# Altium footprint library Components.PcbLib: 154 footprints (part 8 of 10)
Each footprint in its own frame and in the unit in brackets; x right, y up, seen from the top. Pads: shape width x height; smd on the part's side, far side on the other; paste and mask are expansions set on the pad; w line width, h text height; cw(c..) or ccw(c..) is an arc to the next point about the centre after c.
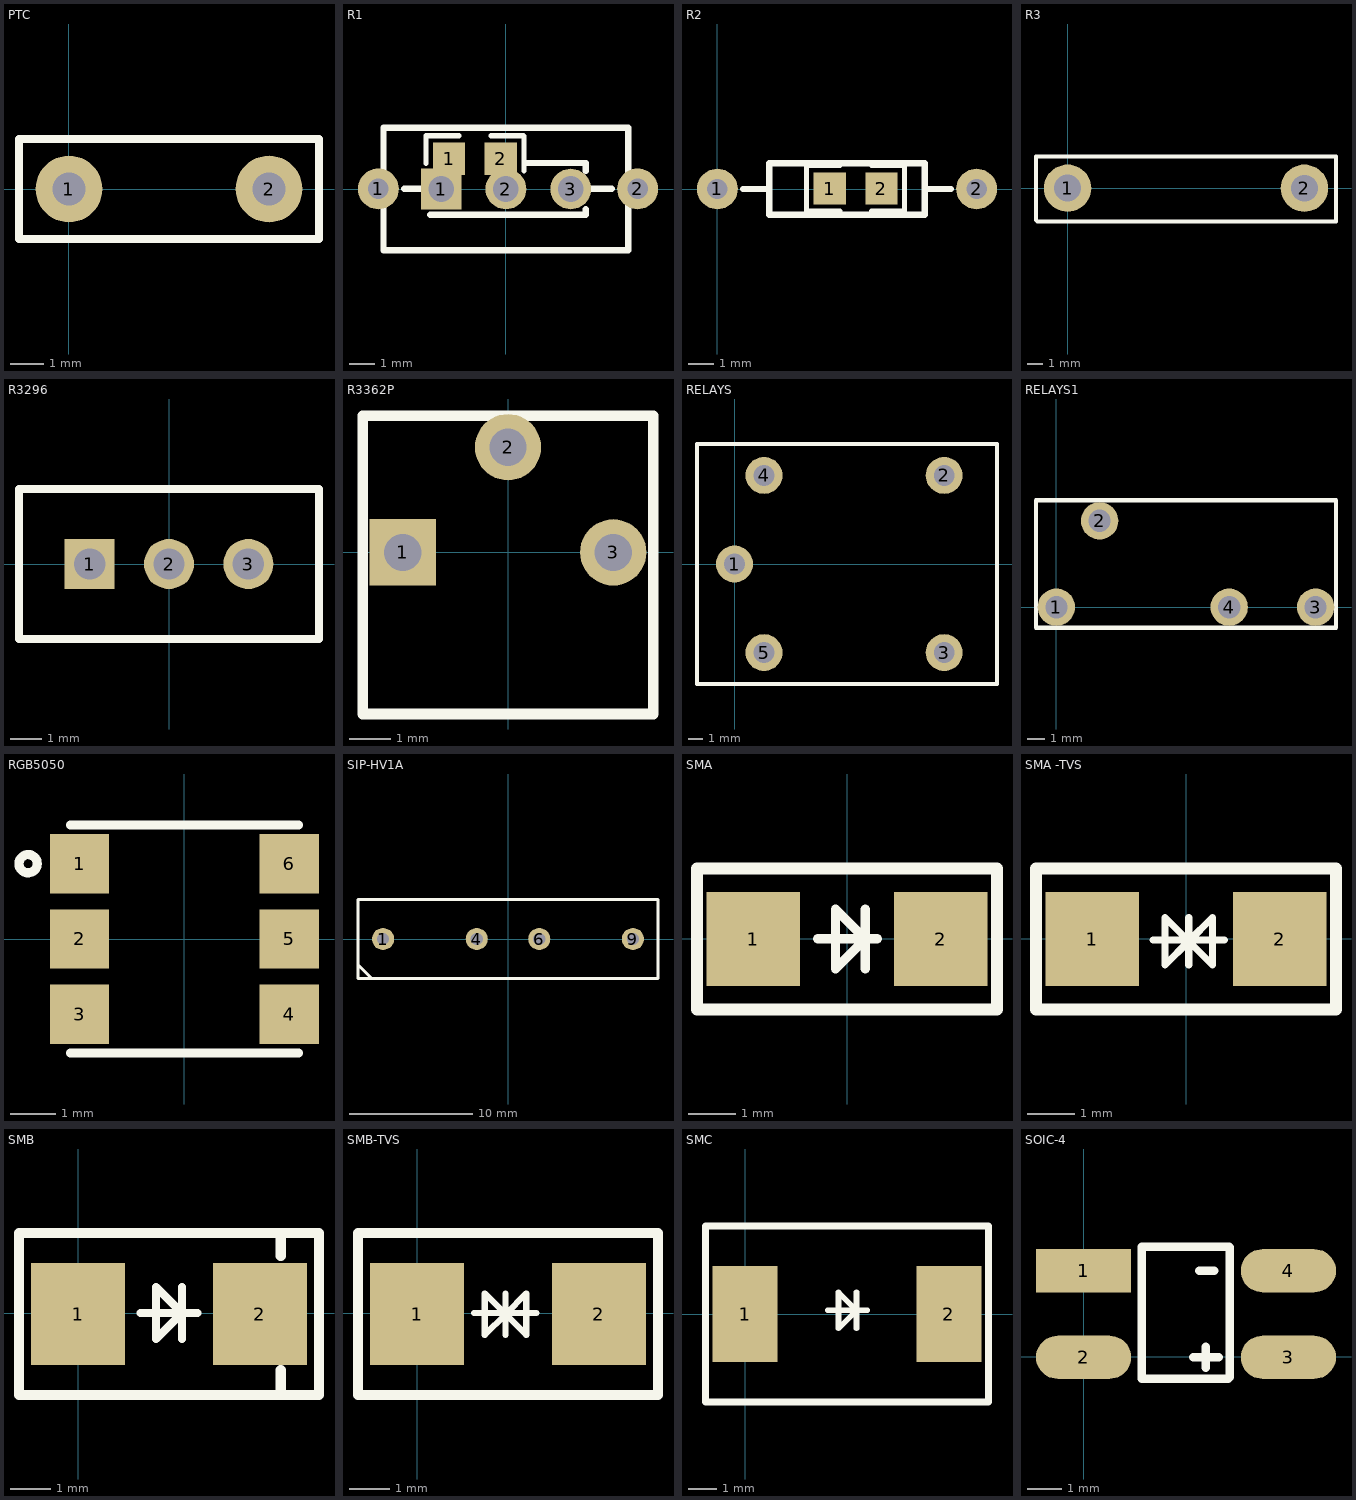
[diagram p7: the footprints below, top view; thin cyan lines are the x and y axes]

## PTC [mm] "Resettable fuse"
pads (2):
  round 2 hole 1: 1(0,0) 2(6,0)
Top Overlay:
  lines w0.254: -1.5,-1.5 -1.5,1.5 7.5,1.5 7.5,-1.5 -1.5,-1.5

## R1 [mm] "R"
pads (7):
  round 1.6 hole 0.8: 1(-5,0.003) 2(5.16,0.003)
  rect 1.6x1.6 hole 1: 1(-2.54,0)
  rect 1.27x1.27 smd: 1(-2.232,1.192) 2(-0.2,1.192)
  round 1.6 hole 1: 2(0,0) 3(2.54,0)
Top Overlay:
  lines w0.2: -3.132,1 -3.132,2.07 ; -3.124,2.089 -1.835,2.089 ; -0.585,2.089 0.695,2.089 ; 0.7,0.7 0.7,2.075
  lines w0.254: -3.984,0.003 -2.968,0.003 ; -2.732,-1.013 -2.968,-1.013 3.128,-1.013 3.128,-0.8 ; 0.8,1.019 3.128,1.019 3.128,0.706 ; 3.128,0.003 4.144,0.003 ; -4.8,-2.4 4.8,-2.4 4.8,2.4 4,2.4 -4,2.4 -4.8,2.4 -4.8,-2.4

## R2 [mm] "R"
pads (4):
  round 1.6 hole 0.8: 1(0,0.003) 2(10.16,0.003)
  rect 1.27x1.27 smd: 1(4.4,0.022) 2(6.432,0.022)
Top Overlay:
  lines w0.2: 3.5,-0.859 3.5,0.9 ; 3.508,-0.859 4.797,-0.859 ; 3.508,0.919 4.797,0.919 ; 6.047,-0.859 7.327,-0.859 ; 6.047,0.919 7.327,0.919 ; 7.332,-0.856 7.332,0.905
  lines w0.254: 1.016,0.003 2.032,0.003 ; 8.128,0.003 9.144,0.003 ; 2.032,-1.013 2.032,1.019 8.128,1.019 8.128,-1.013 2.032,-1.013

## R3 [mm] "R"
pads (2):
  round 3 hole 1.7: 1(0,0.003) 2(15,0)
Top Overlay:
  lines w0.254: -2,-2 -2,2 17,2 17,-2.1 -1.9,-2.1 -2,-2

## R3296 [mm] "R 3296W"
pads (3):
  rect 1.6x1.6 hole 1: 1(-2.54,0)
  round 1.6 hole 1: 2(0,0) 3(2.54,0)
Top Overlay:
  lines w0.254: -4.8,-2.4 4.8,-2.4 4.8,2.4 4,2.4 -4,2.4 -4.8,2.4 -4.8,-2.4

## R3362P [mm] "R 3362P"
pads (3):
  rect 1.6x1.6 hole 0.9: 1(-2.54,0)
  round 1.6 hole 0.9: 2(0,2.54) 3(2.54,0)
Top Overlay:
  lines w0.254: -3.5,-3.9 -3.5,3.3 3.5,3.3 3.5,-3.9 -3.5,-3.9

## RELAYS [mm]
pads (5):
  round 2.5 hole 1.4: 1(0,0) 2(14.2,6) 3(14.2,-6) 4(2,6) 5(2,-6)
Top Overlay:
  lines w0.254: -2.54,-8.128 -2.54,-7.62 -2.54,8.128 17.78,8.128 17.78,7.62 17.78,-8.128 -2.54,-8.128

## RELAYS1 [mm]
pads (4):
  round 2.2 hole 1.3: 1(0,0) 2(2.54,5.08) 3(15.24,0) 4(10.16,0)
Top Overlay:
  lines w0.254: -1.2,-1.2 16.44,-1.2 16.44,6.28 -1.2,6.28 -1.2,-1.2

## RGB5050 [mm] "RGB5050"
pads (6):
  rect 1.3x1.3 smd: 1(-2.3,1.65) 2(-2.3,0) 3(-2.3,-1.65) 4(2.3,-1.65) 5(2.3,0) 6(2.3,1.65)
Top Overlay:
  circle w0.2: c-3.429,1.651 r0.2
  lines w0.2: -2.5,-2.5 2.5,-2.5 ; -2.5,2.5 2.5,2.5

## SIP-HV1A [mm] "SIP-HV1A12"
pads (4):
  round 1.8 hole 1: 1(-10.16,0) 4(-2.54,0) 6(2.54,0) 9(10.16,0)
Top Overlay:
  lines w0.254: -12.2,-2 -12.2,-2.1 -11.1,-3.2 ; -12.2,-3.2 12.2,-3.2 12.2,3.2 -12.2,3.2 -12.2,-3.2

## SMA [mm] "5.28*2.90mm"
pads (2):
  rect 2x2 smd: 1(-2.008,-0.002) 2(1.992,-0.002)
Top Overlay:
  lines w0.2: -0.635,0 0.635,0 ; 0.381,-0.635 0.381,0.635 ; -0.254,-0.635 0.381,0 -0.254,0.635 -0.254,-0.635
  lines w0.254: -3.208,-1.502 -3.208,1.498 3.192,1.498 3.192,-1.502 -3.208,-1.502

## SMA -TVS [mm] "5.28*2.90mm"
pads (2):
  rect 2x2 smd: 1(-2.008,-0.002) 2(1.992,-0.002)
Top Overlay:
  lines w0.152: 0.051,-0.559 0.051,0.457 ; -0.457,-0.559 -0.457,0.457 0.559,-0.559 0.559,0.457 0.051,-0.051 -0.457,-0.559
  lines w0.154: -0.714,-0.026 0.81,-0.026
  lines w0.254: -3.208,-1.502 3.192,-1.502 3.192,1.498 -3.208,1.498 -3.208,-1.502

## SMB [mm]
pads (2):
  rect 2.3x2.5 smd: 1(-0.001,-0.022) 2(4.444,-0.022)
Top Overlay:
  lines w0.2: 1.524,0.002 2.921,0.002 ; 2.54,-0.633 2.54,0.637 ; 1.905,-0.633 2.54,0.002 1.905,0.637 1.905,-0.633
  lines w0.254: 4.953,-2.003 4.953,-1.397 ; 4.953,1.397 4.953,1.959 ; -1.449,-2.003 -1.449,1.959 5.892,1.959 5.892,-2.003 -1.449,-2.003

## SMB-TVS [mm]
pads (2):
  rect 2.3x2.5 smd: 1(-0.001,-0.022) 2(4.444,-0.022)
Top Overlay:
  lines w0.152: 2.162,-0.534 2.162,0.482 ; 1.654,-0.534 1.654,0.482 2.67,-0.534 2.67,0.482 2.162,-0.026 1.654,-0.534
  lines w0.154: 1.397,0 2.921,0
  lines w0.254: -1.449,-2.003 5.892,-2.003 5.892,1.959 -1.449,1.959 -1.449,-2.003

## SMC [mm] "8.13*6.22"
pads (2):
  rect 2.3x3.4 smd: 1(0,0) 2(7.2,0)
Top Overlay:
  lines w0.2: 2.921,0.129 4.318,0.129 ; 3.937,-0.506 3.937,0.764 ; 3.302,-0.506 3.937,0.129 3.302,0.764 3.302,-0.506
  lines w0.254: -1.397,-3.11 -1.397,3.11 8.6,3.11 8.6,-3.11 -1.397,-3.11

## SOIC-4 [mil]
pads (4):
  rect 110x50 smd: 1(-0.02,99.57)
  oval 110x50 smd: 2(-0.02,-0.43) 3(236.64,-0.43) 4(236.64,99.57)
Top Overlay:
  lines w10: 126.98,-0.43 155.98,-0.43 ; 133.98,99.57 150.98,99.57 ; 140.98,-12.43 140.98,11.57 ; 166.98,-25.43 66.98,-25.43 66.98,127.46 168.08,127.46 ; 168.98,-23.43 168.98,126.57